# Altium schematic symbol library RS-282G05A3-SMRT.SchLib: 2 symbols
Pins are listed as number, name and electrical type; pins without a type are passive.

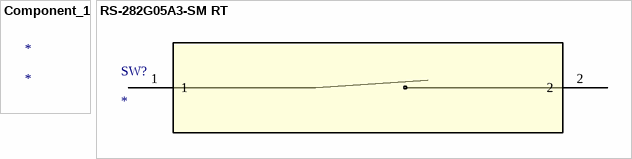
[diagram p0: symbols Component_1 to RS-282G05A3-SM RT]

## Component_1
designator *

## RS-282G05A3-SM RT
designator SW?
No Description Available; Mfr_Name: C&K Components; Digi-Key_Part_Number_3: CKN10384DKR-ND; Digi-Key_Part_Number_2: CKN10384CT-ND; Digi-Key_Part_Number_1: CKN10384TR-ND; RefDes: RefDes; Type: Type
footprint RS-282G05A3-SM RT_CNK
pins: 1, 2